# Altium footprint library Footprints.PcbLib: 77 footprints (part 3 of 5)
Each footprint in its own frame and in the unit in brackets; x right, y up, seen from the top. Pads: shape width x height; smd on the part's side, far side on the other; paste and mask are expansions set on the pad; w line width, h text height; cw(c..) or ccw(c..) is an arc to the next point about the centre after c.
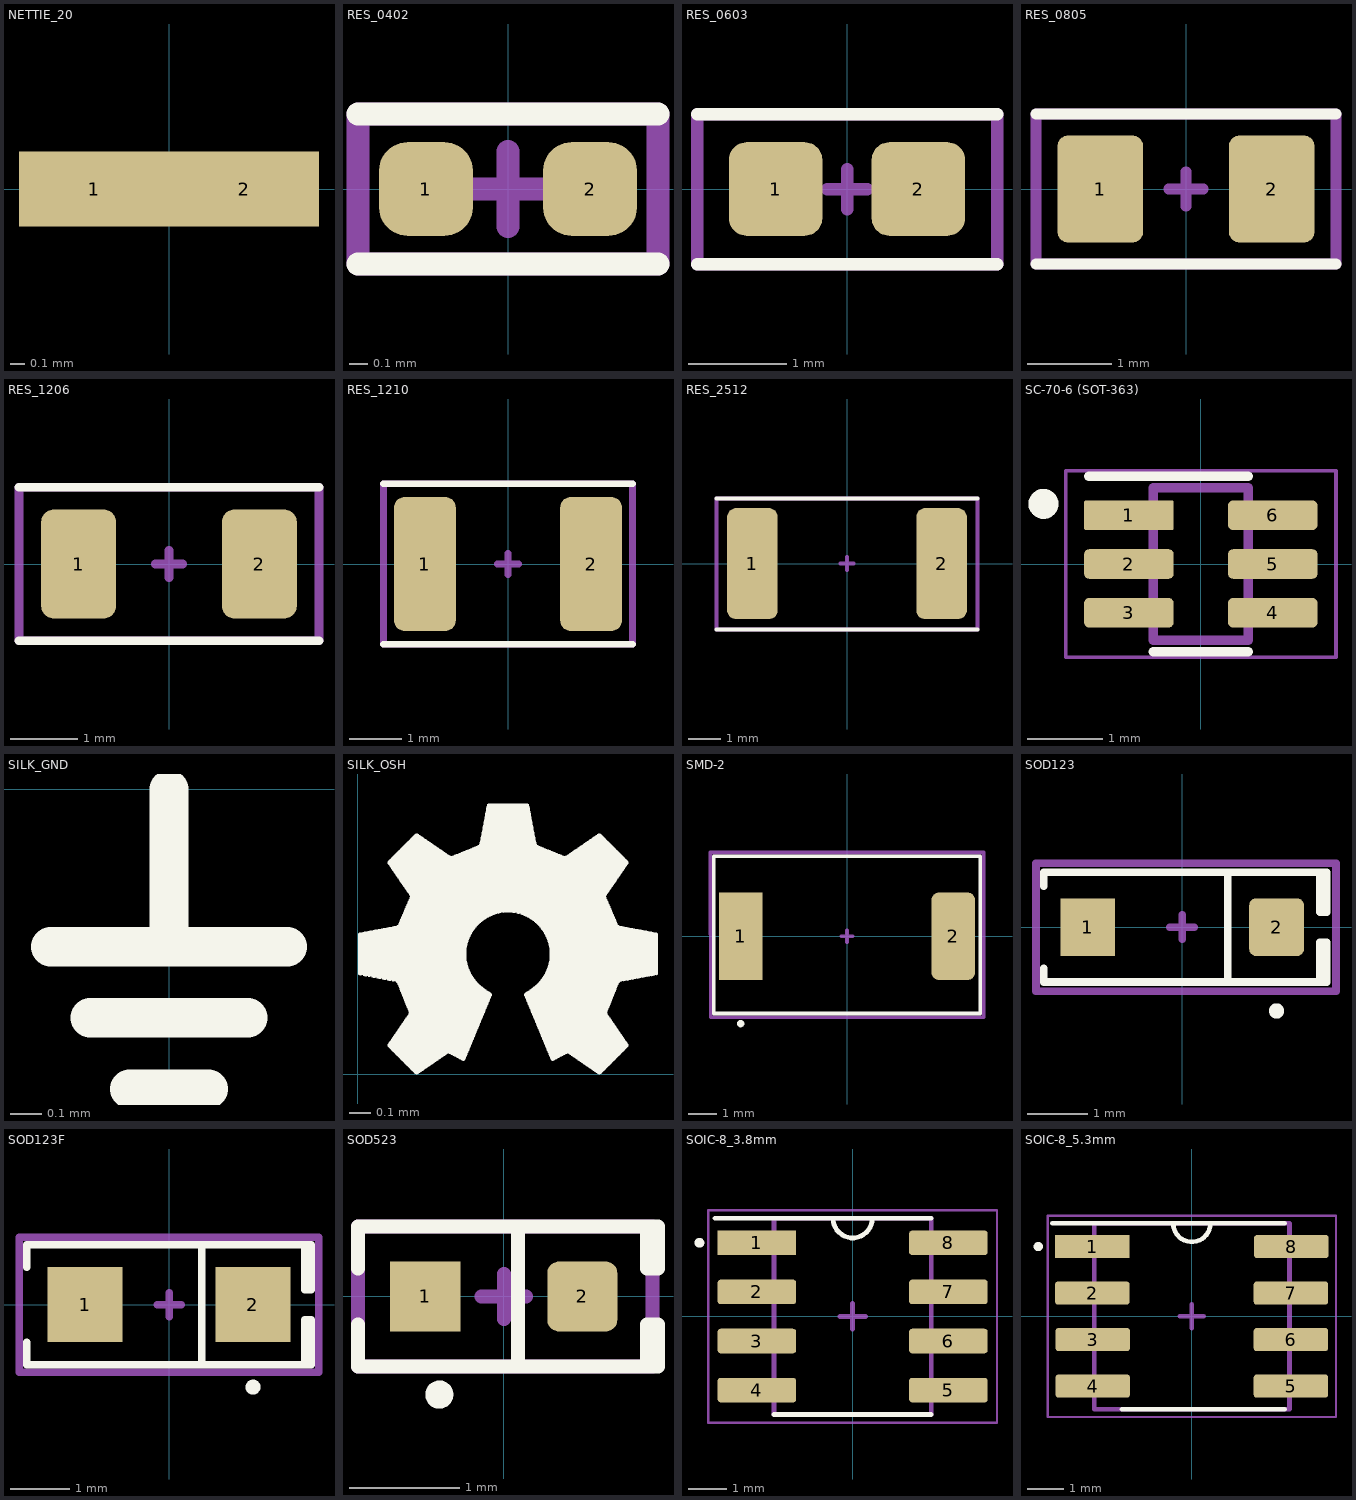
[diagram p2: the footprints below, top view; thin cyan lines are the x and y axes]

## NETTIE_20 [mil]
pads (2):
  rect 40x20 smd paste-999 mask+0: 1(-20,0) 2(20,0)

## RES_0402 [mil] "0402 Generic Resistor"
height 13.78
pads (2):
  rrect60% 20x20 smd paste+0 mask+1.97: 1(-17.5,0) 2(17.5,0)
Top Overlay:
  lines w5: -32,-16 32,-16 ; -32,16 32,16
Top Designator:
  text "'.Designator'" at -27,-11.34 h20
  text "'.Comment'" at -27,-53 h20
Top Assembly (Mech8):
  lines w5: -8,0 8,0 ; 0,-8 0,8 ; -32,-16 32,-16 32,16 -32,16 -32,-16
3D body "Cap0402.step": height 19.68, standoff 0, extent -19.37,-9.69 20,10

## RES_0603 [mm]
pads (2):
  rrect37% 0.95x0.95 smd: 1(-0.725,0) 2(0.725,0)
Top Overlay:
  lines w0.127: -1.524,-0.762 1.524,-0.762 ; -1.524,0.762 1.524,0.762
Top Designator:
  text "'.Comment'" at -1.346,-1.499 h0.51
  text "'.Designator'" at -1.346,-0.186 h0.51
Bottom Designator:
Top Assembly (Mech8):
  lines w0.127: -0.203,0 0.203,0 ; 0,-0.203 0,0.203 ; -1.524,-0.762 1.524,-0.762 1.524,0.762 -1.524,0.762 -1.524,-0.762
3D body "User Library-RES_SMD-1.step": height 0.55, standoff 0, extent -0.875,-0.475 0.875,0.475

## RES_0805 [mil]
pads (2):
  rrect25% 40x50 smd: 1(-40,0) 2(40,0)
Top Overlay:
  lines w5: -70,-35 70,-35 ; -70,35 70,35
Top Designator:
  text "'.Comment'" at -64,-30 h20
  text "'.Designator'" at -64,6.66 h20
Top Assembly (Mech8):
  lines w5: -8,0 8,0 ; 0,-8 0,8 ; -70,-35 70,-35 70,35 -70,35 -70,-35
3D body "CircuitWorks-RC0805.step": height 24.13, standoff 0.5, extent -39.37,-24.6 39.37,24.61

## RES_1206 [mil]
pads (2):
  rrect33% 44x64 smd: 1(-53,0) 2(53,0)
Top Overlay:
  lines w5: -88,-45 88,-45 ; -88,45 88,45
Top Designator:
  text "'.Designator'" at -81.06,7.66 h20
  text "'.Comment'" at -81.06,-37.49 h20
Top Assembly (Mech8):
  lines w5: -8,0 8,0 ; 0,-8 0,8 ; -88,-45 88,-45 88,45 -88,45 -88,-45
3D body "User Library-SMD Resistors.step": height 22.16, standoff 0.5, extent -63,-31.69 62.99,31.69

## RES_1210 [mil]
pads (2):
  rrect33% 46x100 smd: 1(-62,0) 2(62,0)
Top Overlay:
  lines w5: -93,-60 93,-60 ; -93,60 93,60
Top Designator:
  text "'.Comment'" at -81.06,-37.49 h20
  text "'.Designator'" at -81.06,7.66 h20
Top Assembly (Mech8):
  lines w5: -8,0 8,0 ; 0,-8 0,8 ; -93,-60 93,-60 93,60 -93,60 -93,-60
3D body "RES - 1210.step": height 27.56, standoff 0, extent -62.99,-49.21 63,49.22

## RES_2512 [mil]
pads (2):
  rrect33% 62x136 smd: 1(-116,0) 2(116,0)
Top Overlay:
  lines w5: -160,-81 160,-81 ; -160,80 160,80
Top Designator:
  text "'.Designator'" at -153,49.66 h20
  text "'.Comment'" at -153,-74 h20
Top Assembly (Mech8):
  lines w5: -8,0 8,0 ; 0,-8 0,8 ; -160,-81 160,-81 160,80 -160,80 -160,-81
3D body "User Library-SMD Resistors (1).step": height 24.13, standoff 0.5, extent -124.02,-62.2 124.02,62.2

## SC-70-6 (SOT-363) [mil]
height 45
pads (7):
  rrect10% 47x15.5 smd: 1(-37.8,25.59)
  rrect33% 47x15.5 smd: 2(-37.8,0) 3(-37.8,-25.59) 4(37.8,-25.59) 5(37.8,0) 6(37.8,25.59)
  round 7.5 on Mech8: ""(-37.8,25.59)
Top Overlay:
  circle w7.87: c-82.68,31.57 r3.94
  lines w5: -59,46 25,46 ; -25,-46 25,-46
Top Assembly (Mech8):
  lines w5: -25,-40 25,-40 25,40 -25,40 -25,-40
Top Courtyard:
  lines w2: -71,-49 -71,49 71,49 71,-49 -71,-49
3D body "INA199A3DCKR.STEP": height 43.81, standoff 0.5, extent -41.34,-39.37 41.34,39.37

## SILK_GND [mil]
Top Overlay:
  lines w5: -15,-20 15,-20 ; -10,-29 10,-29 ; -5,-38 5,-38 ; 0,-20 0,0

## SILK_OSH [mil]
Top Overlay:
  drawing of 1 lines, arcs and shapes, not listed

## SMD-2 [mil]
pads (3):
  rect 60x120 smd: 1(-146,0)
  rrect33% 60x120 smd: 2(146,0)
  round 7.5 on Mech8: ""(-146,0)
Top Overlay:
  circle w5: c-146,-120 r2.5
  lines w5: -183,-106 -183,-18 -183,110 183,110 183,-106 -183,-106
Top Designator:
  text "'.Comment'" at -175.06,-98.49 h20
  text "'.Designator'" at -176,80.66 h20
Top Assembly (Mech8):
  lines w5: -8,0 8,0 ; 0,-8 0,8 ; -188,115 188,115 188,-111 -187,-111 -188,115
3D body "User Library-SMD100F.step": height 119.19, standoff 1.08, extent -157.48,-98 157.48,98.85

## SOD123 [mil]
pads (3):
  rect 36x38 smd: 1(-62,0)
  rrect25% 36x38 smd: 2(62,0)
  round 7.5 on Mech8: ""(-62,0)
Top Overlay:
  circle w5: c62,-55 r2.5
  lines w5: -91,-27 -91,-36 95,-36 95,-10 90.5,-10 90.5,-36 ; -91,27 -91,36 95,36 95,10 90.5,10 90.5,36 ; 30,-36 30,36
Top Designator:
  text "'.Comment'" at -89,-35 h20
  text "'.Designator'" at -89,11.66 h20
Top Assembly (Mech8):
  lines w5: -8,0 8,0 ; 0,-8 0,8 ; -96,-42 -96,42 101,42 101,-42 -96,-42
3D body "SOD-123.STEP": height 53.15, standoff 0, extent -73.38,-30.51 73.38,30.51

## SOD123F [mil] "SODFL, 2-Leads, Body 1.60x3.50mm, IPC Medium Density"
height 39.37
pads (3):
  rect 50x50 smd: 1(-56,0) 2(56,0)
  round 7.5 on Mech8: ""(-56,0)
Top Overlay:
  circle w5: c56,-55 r2.5
  lines w5: -95,-25 -95,-40 90,-40 95,-40 95,-10 90.5,-10 90.5,-40 ; -95,25 -95,40 90,40 95,40 95,10 90.5,10 90.5,40 ; 22,-40 22,40
Top Designator:
  text "'.Designator'" at -88,9.66 h20
  text "'.Comment'" at -88,-33 h20
Top Assembly (Mech8):
  lines w5: -8,0 8,0 ; 0,-8 0,8 ; -100,-45 -100,45 100,45 100,-45 -100,-45
3D body "SOD123F.STEP": height 43.31, standoff 0, extent -68.89,-31.49 68.91,31.5

## SOD523 [mil]
pads (3):
  rect 25x25 smd: 1(-28,0)
  rrect33% 25x25 smd: 2(28,0)
  round 7.5 on Mech8: ""(-28,0)
Top Overlay:
  circle w5: c-23,-35 r2.5
  lines w5: -52,-10 -52,-25 55,-25 55,-10 51,-10 51,-25 ; -52,10 -52,25 55,25 55,10 51,10 51,25 ; 5,-25 5,25
Top Designator:
  text "'.Comment'" at -49,-54 h20
  text "'.Designator'" at -47,-5.84 h20
Top Assembly (Mech8):
  lines w5: -8,0 8,0 ; 0,-8 0,8 ; -52,-25 53,-25 53,25 -52,25 -52,-25
3D body "User Library-SOD523-2.step": height 26.13, standoff 0.5, extent -32.48,-15.75 32.48,15.73

## SOIC-8_3.8mm [mil]
pads (9):
  rect 80x25 smd: 1(-97.5,75)
  rrect25% 80x25 smd: 2(-97.5,25) 3(-97.5,-25) 4(-97.5,-75) 5(97.5,-75) 6(97.5,-25) 7(97.5,25) 8(97.5,75)
  round 7.5 on Mech8: ""(-97.5,75)
Top Overlay:
  circle w5: c-156,75 r2.5
  lines w5: -140,100 80,100 ; -80,-100 80,-100 ; -20,100 ccw(c0,100) 20,100
Top Designator:
  text ".Designator" at -99.97,-6.66 h20
  text "'.Comment'" at -100,-45 h20
Top Assembly (Mech8):
  lines w5: -13,0 13,0 ; 0,-13 0,13 ; -80,-100 80,-100 80,100 -80,100 -80,-100
Top Courtyard:
  lines w2.5: -147,-108.27 147,-108.27 147,108.27 -147,108.27 -147,-108.27
3D body "MAX4310ESA+.STEP": height 69.4, standoff 0.5, extent -118.11,-96.46 118.11,96.46

## SOIC-8_5.3mm [mil]
pads (9):
  rect 80x25 smd: 1(-107,75)
  rrect25% 80x25 smd: 2(-107,25) 3(-106.5,-25) 4(-106.5,-75) 5(106.5,-75) 6(106.5,-25) 7(106.5,25) 8(107,75)
  round 7.5 on Mech8: ""(-107,75)
Top Overlay:
  circle w5: c-165,75 r2.5
  lines w5: -150,100 100,100 ; -75,-100 100,-100 ; -20,100 ccw(c0,100) 20,100
Top Designator:
  text "'.Comment'" at -100,-45 h20
  text ".Designator" at -99.97,-6.66 h20
Top Assembly (Mech8):
  lines w5: -13,0 13,0 ; 0,-13 0,13 ; -105,-100 -105,100 105,100 105,-100 -105,-100
Top Courtyard:
  lines w2.5: -155,-108.27 -155,108.27 155,108.27 155,-108.27 -155,-108.27
3D body "SOP8_ROM.step": height 59.09, standoff 0, extent -122.01,-98.5 122.01,98.5